# Altium schematic symbol library GPS.SchLib: 1 symbol
Pins are listed as number, name and electrical type; pins without a type are passive.

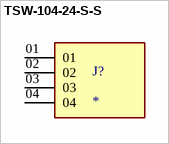
[diagram p0: symbol TSW-104-24-S-S]

## TSW-104-24-S-S
designator J?
MP: TSW-104-24-S-S; Package: None; Price: None; Value: *; Availability: Unavailable
footprint SAMTEC_TSW-104-24-S-S
pins: 01, 02, 03, 04